# EAGLE library part PIC18F2420-X/ML (library pic2420_ML)
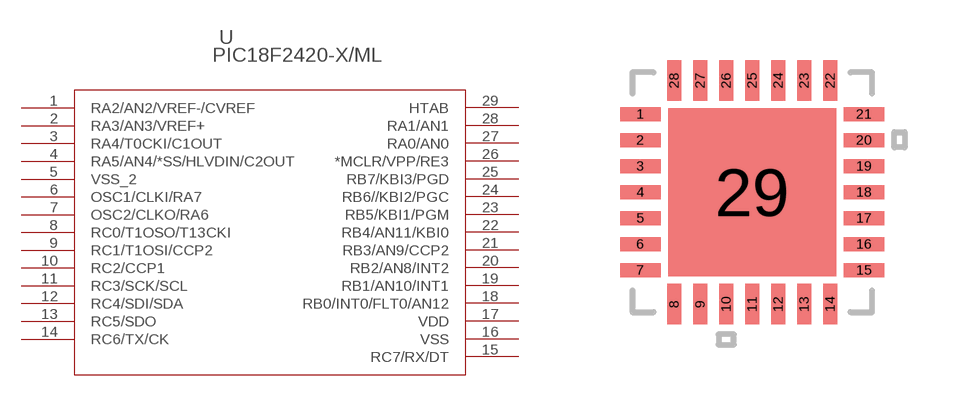
[diagram p0: symbol with the pads of QFN28_6X6MC; footprint QFN28_6X6MC]

Designator prefix -

## PIC18F2420-X/ML  [QFN28_6X6MC]
1  RA2/AN2/VREF-/CVREF  pas
2  RA3/AN3/VREF+  pas
3  RA4/T0CKI/C1OUT  pas
4  RA5/AN4/*SS/HLVDIN/C2OUT  pas
5  VSS_2  pas
6  OSC1/CLKI/RA7  pas
7  OSC2/CLKO/RA6  pas
8  RC0/T1OSO/T13CKI  pas
9  RC1/T1OSI/CCP2  pas
10  RC2/CCP1  pas
11  RC3/SCK/SCL  pas
12  RC4/SDI/SDA  pas
13  RC5/SDO  pas
14  RC6/TX/CK  pas
15  RC7/RX/DT  pas
16  VSS  pas
17  VDD  pas
18  RB0/INT0/FLT0/AN12  pas
19  RB1/AN10/INT1  pas
20  RB2/AN8/INT2  pas
21  RB3/AN9/CCP2  pas
22  RB4/AN11/KBI0  pas
23  RB5/KBI1/PGM  pas
24  RB6//KBI2/PGC  pas
25  RB7/KBI3/PGD  pas
26  *MCLR/VPP/RE3  pas
27  RA0/AN0  pas
28  RA1/AN1  pas
29  HTAB  pas

## Footprint QFN28_6X6MC (pad centres in mm)
smd 1.016 x 0.356: 1 -2.797,1.95; 2 -2.797,1.3; 3 -2.797,0.65; 4 -2.797,0; 5 -2.797,-0.65; 6 -2.797,-1.3; 7 -2.797,-1.95; 15 2.797,-1.95; 16 2.797,-1.3; 17 2.797,-0.65; 18 2.797,0; 19 2.797,0.65; 20 2.797,1.3; 21 2.797,1.95
smd 0.356 x 1.016: 8 -1.95,-2.797; 9 -1.3,-2.797; 10 -0.65,-2.797; 11 0,-2.797; 12 0.65,-2.797; 13 1.3,-2.797; 14 1.95,-2.797; 22 1.95,2.797; 23 1.3,2.797; 24 0.65,2.797; 25 0,2.797; 26 -0.65,2.797; 27 -1.3,2.797; 28 -1.95,2.797
smd 4.191 x 4.191: 29 0,0